# EAGLE library part TPS54227 (library pie)
TPS54227 4.5V to 18V Input, 2-A SYNCHRONOUS STEP DOWN CONVERTER
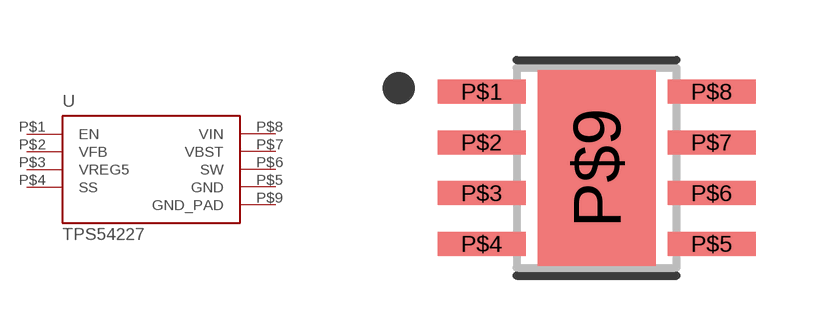
[diagram p24: symbol with the pads of DDA; footprint DDA]

Designator prefix U

## TPS54227DDA (PIE-INT-REF-NUM: tps54227)  [DDA]
P$1  EN
P$2  VFB
P$3  VREG5
P$4  SS
P$5  GND
P$6  SW
P$7  VBST
P$8  VIN
P$9  GND_PAD

## Footprint DDA (pad centres in mm)
DDA package TI PowerPAD(TM) Plastic Small Outline (8-pin)
smd 2.2 x 0.6: P$1 -2.875,1.905; P$2 -2.875,0.635; P$3 -2.875,-0.635; P$4 -2.875,-1.905; P$5 2.875,-1.905; P$6 2.875,-0.635; P$7 2.875,0.635; P$8 2.875,1.905
smd 2.95 x 4.9: P$9 0,0